# Altium footprint library MAX1771.PcbLib: 2 footprints
Each footprint in its own frame and in the unit in brackets; x right, y up, seen from the top. Pads: shape width x height; smd on the part's side, far side on the other; paste and mask are expansions set on the pad; w line width, h text height; cw(c..) or ccw(c..) is an arc to the next point about the centre after c.
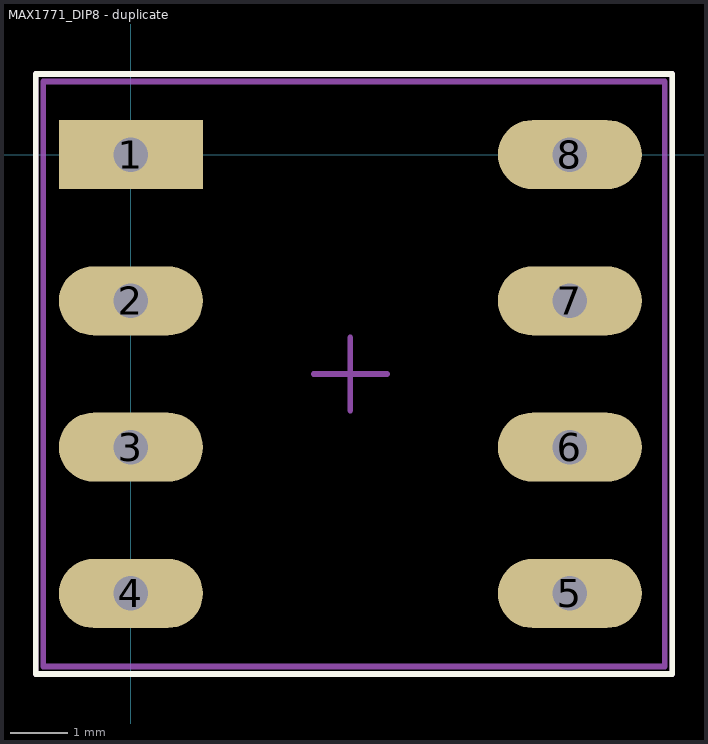
[diagram p0: the footprints below, top view; thin cyan lines are the x and y axes]

## MAX1771_DIP8 [mm]

## MAX1771_DIP8 - duplicate [mm]
pads (8):
  rect 2.5x1.2 hole 0.6: 1(0,0)
  oval 2.5x1.2 hole 0.6: 2(0,-2.54) 3(0,-5.08) 4(0,-7.62) 5(7.62,-7.62) 6(7.62,-5.08) 7(7.62,-2.54) 8(7.62,0)
Top Overlay:
  lines w0.1: -1.651,-9.017 9.398,-9.017 9.398,1.397 -1.651,1.397 -1.651,-9.017
Top Assy:
  lines w0.1: -1.524,-8.89 9.271,-8.89 9.271,1.27 9.017,1.27 -1.524,1.27 -1.524,-8.89
Border:
  lines w0.1: 3.175,-3.81 4.445,-3.81 ; 3.81,-4.445 3.81,-3.175 ; -1.651,-9.017 9.398,-9.017 9.398,1.397 -1.651,1.397 -1.651,-9.017
3D body "MAX1771.step": height 4.36, standoff 0, extent 0.71,-8.51 6.91,0.89